# Altium integrated library MC-306_32.7680K-A5__ROHS.IntLib: 1 symbol
Pins are listed as number, name and electrical type; pins without a type are passive.

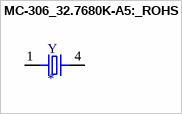
[diagram p0: symbol MC-306_32.7680K-A5:_ROHS]

## MC-306_32.7680K-A5:_ROHS
designator Y
32.768kHz Â±100ppm Crystal 12.5pF 50 kOhms 4-SOJ, 5.50mm pitch; MP: MC-306 32.7680K-A5: ROHS; MF: EPSON; Price: None; Availability: Unavailable; Package: 4-4 Epson; SnapEDA_Link: https://www.snapeda.com/parts/MC-306%2032.7680K-A5%3A%20ROHS/EPSON/view-part/620500/?ref=snap; Value: *
footprint OSCL550P800X320X254-4N
pins: 1, 4